# Altium schematic symbol library ANT-SMT.SchLib: 1 symbol
Pins are listed as number, name and electrical type; pins without a type are passive.

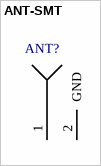
[diagram p0: symbol ANT-SMT]

## ANT-SMT
designator ANT?  (no BOM)
pins: 1, 2 GND (power)